# Altium footprint library TimerSMD_Models.PcbLib: 39 footprints (part 3 of 3)
Each footprint in its own frame and in the unit in brackets; x right, y up, seen from the top. Pads: shape width x height; smd on the part's side, far side on the other; paste and mask are expansions set on the pad; w line width, h text height; cw(c..) or ccw(c..) is an arc to the next point about the centre after c.
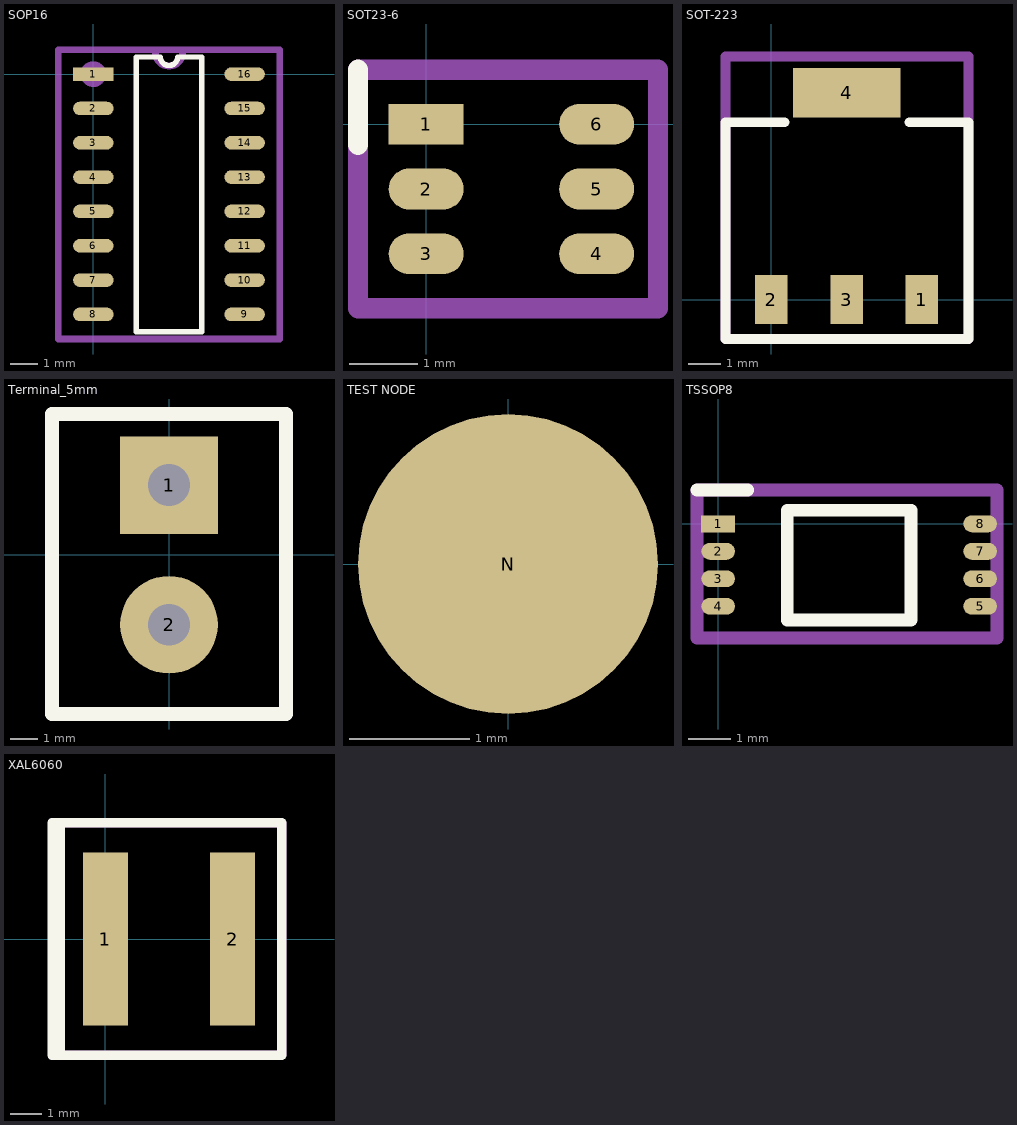
[diagram p2: the footprints below, top view; thin cyan lines are the x and y axes]

## SOP16 [mm]
pads (16):
  rect 1.5x0.5 smd: 1(0,0)
  oval 1.5x0.5 smd: 2(0,-1.27) 3(0,-2.54) 4(0,-3.81) 5(0,-5.08) 6(0,-6.35) 7(0,-7.62) 8(0,-8.89) 9(5.6,-8.89) 10(5.6,-7.62) 11(5.6,-6.35) 12(5.6,-5.08) 13(5.6,-3.81) 14(5.6,-2.54) 15(5.6,-1.27) 16(5.6,0)
Top Overlay:
  lines w0.2: 1.585,-9.525 4.015,-9.525 4.015,0.635 3.117,0.635 cw(c2.8,0.635) 2.482,0.635 1.585,0.635 1.585,-9.525
Mechanical 2:
  circle w0.5: c0,0 r0.224
  lines w0.254: 2.3,0.8 ccw(c2.8,0.8) 3.3,0.8 ; -1.3,-9.8 -1.3,0.9 2.6,0.9 6.9,0.9 6.9,-9.8 -1.3,-9.8
  text ".Designator" at -0.3,-6.3 h3
3D body "User Library-SOIC127P600X175-16.step": height 1.65, standoff 0, extent -0.24,-9.5 5.84,0.5

## SOT23-6 [mm]
pads (6):
  rect 1.1x0.6 smd: 1(0,0)
  oval 1.1x0.6 smd: 2(0,-0.95) 3(0,-1.9) 4(2.5,-1.9) 5(2.5,-0.95) 6(2.5,0)
Top Overlay:
  lines w0.3: -1,-0.3 -1,0.8
Mechanical 2:
  lines w0.3: -1,-2.7 -1,0.6 -1,0.8 3.4,0.8 3.4,-2.7 3.3,-2.7 -1,-2.7
  text ".Designator" at 0.202,-1.533 h1
3D body "sot-23-6.stp": height 1.15, standoff 0.04, extent -0.222,-2.461 2.622,0.46

## SOT-223 [mil]
pads (4):
  rect 39x59 smd: 1(180,0) 2(0,0) 3(90,0)
  rect 129x59 smd: 4(90,248)
Top Overlay:
  lines w11.81: 15.75,212.6 -55.12,212.6 -55.12,-47.24 236.22,-47.24 236.22,212.6 165.35,212.6
Mechanical 2:
  lines w11.81: -55.12,-47.24 236.22,-47.24 236.22,291.34 -55.12,291.34 -55.12,-47.24
  text ".Designator" at -3.94,102.36 h78.74
3D body "TO-261AA.stp": height 70.87, standoff 0, extent -41.33,-9.83 222.45,277.56

## Terminal_5mm [mm]
pads (2):
  rect 3.5x3.5 hole 1.5: 1(0,2.5)
  round 3.5 hole 1.5: 2(0,-2.5)
Top Overlay:
  lines w0.5: -4.2,-5.7 4.2,-5.7 4.2,5.05 -4.2,5.05 -4.2,-5.7
Mechanical 2:
  lines w0.2: -4.2,-5.675 4.2,-5.675 4.2,5.05 -4.2,5.05 -4.2,-5.675
  text ".Designator" at -1.05,-1.275 h3
3D body "1729018.stp": height 10.01, standoff -3.49, extent -4.075,-5.585 4.075,4.985

## TEST NODE [mm]
pads (1):
  round 2.5 smd: N(0,0)

## TSSOP8 [mm]
pads (8):
  rect 0.8x0.4 smd: 1(0,0)
  oval 0.8x0.4 smd: 2(0,-0.65) 3(0,-1.3) 4(0,-1.95) 5(6.2,-1.95) 6(6.2,-1.3) 7(6.2,-0.65) 8(6.2,0)
Top Overlay:
  lines w0.3: -0.5,0.8 0.7,0.8 ; 1.635,-2.275 1.635,0.325 3.263,0.325 4.565,0.325 4.565,-2.275 1.635,-2.275
Mechanical 2:
  lines w0.3: -0.5,-2.7 6.6,-2.7 6.6,0.8 -0.5,0.8 -0.5,-2.7
  text ".Designator" at 0.902,-1.533 h1
3D body "User Library-TSSOP-8.STEP": height 1.06, standoff -0.14, extent -0.1,-2.5 6.3,0.5

## XAL6060 [mm]
pads (2):
  rect 1.43x5.5 smd: 1(0,0) 2(4.04,0)
Top Overlay:
  region: -1.8,3.7 -1.3,3.7 -1.3,-3.7 -1.8,-3.7
  lines w0.3: -1.7,-3.7 5.6,-3.7 5.6,3.7 -1.7,3.7 -1.7,-3.7
Mechanical 2:
  lines w0.3: -1.6,-3.7 -1.6,3.7 5.6,3.7 5.6,-3.7 -1.6,-3.7
  text ".Designator" at -0.497,-2.533 h2
3D body "Coilcraft-XAL6060.step": height 6.11, standoff 0.01, extent -1.28,-3.38 5.28,3.38